# Altium footprint library crystal.PcbLib: 12 footprints
Each footprint in its own frame and in the unit in brackets; x right, y up, seen from the top. Pads: shape width x height; smd on the part's side, far side on the other; paste and mask are expansions set on the pad; w line width, h text height; cw(c..) or ccw(c..) is an arc to the next point about the centre after c.
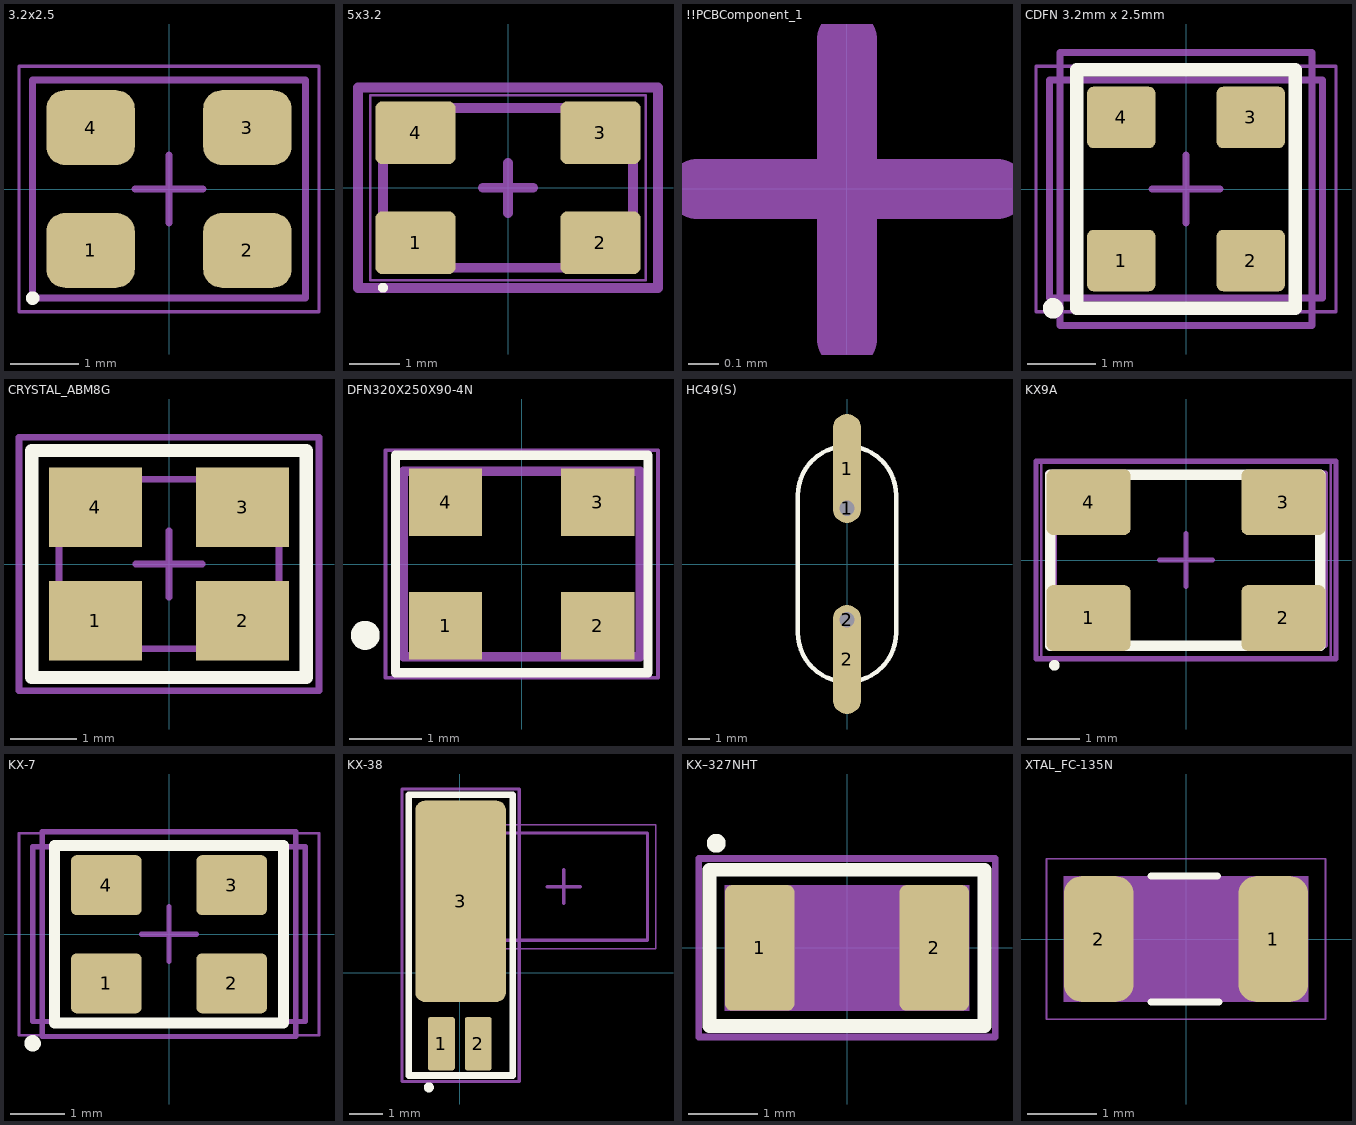
[diagram p0: the footprints below, top view; thin cyan lines are the x and y axes]

## 3.2x2.5 [mm] "KX7T"
height 1
pads (4):
  rrect50% 1.3x1.1 smd: 1(-1.15,-0.9) 2(1.15,-0.9) 3(1.15,0.9) 4(-1.15,0.9)
Top Overlay:
  circle w0.1: c-2,-1.6 r0.05
Mechanical 13:
  lines w0.1: -2,-1.6 -2,1.6 2,1.6 2,-1.6 -2,-1.6
Mechanical 15:
  lines w0.05: -2.2,-1.8 -2.2,1.8 2.2,1.8 2.2,-1.8 -2.2,-1.8
  lines w0.1: -0.5,0 0.5,0 ; 0,-0.5 0,0.5
3D body "User Library-CTS.step": height 0.77, standoff 0, extent -1.6,-1.25 1.6,1.25

## 5x3.2 [mm] "KX9A, IPC Medium Density"
height 1
pads (4):
  rrect20% 1.6x1.25 smd: 1(-1.85,-1.1) 2(1.85,-1.1) 3(1.85,1.1) 4(-1.85,1.1)
Top Overlay:
  circle w0.1: c-2.5,-2 r0.05
M3_comm_top:
  text ".comment" at -0.9,-0.3 h1
M5_asm_top:
  circle w0.2: c-1.9,-1 r0.25
  lines w0.2: -2.5,-1.6 -2.5,1.6 2.5,1.6 2.5,-1.6 -2.5,-1.6
  text ".Designator" at -1.1,2 h1
M7_courtyard_top:
  lines w0.2: -0.5,0 0.5,0 ; 0,-0.5 0,0.5 ; -3,-2 -3,2 3,2 3,-2 -3,-2
Mechanical 13:
  lines w0.1: -2.5,-1.6 -2.5,1.6 2.5,1.6 2.5,-1.6 -2.5,-1.6
Mechanical 15:
  lines w0.05: -2.75,-1.85 -2.75,1.85 2.75,1.85 2.75,-1.85 -2.75,-1.85
  lines w0.1: -0.5,0 0.5,0 ; 0,-0.5 0,0.5
3D body "GeyerElectronics_KX9A.step": height 1.01, standoff 0, extent -2.5,-1.6 2.5,1.6

## !!PCBComponent_1 [mm]
M3_comm_top:
  text ".comment" at -0.9,-0.3 h1
M5_asm_top:
  text ".Designator" at -1,1.3 h1
M7_courtyard_top:
  lines w0.2: -0.5,0 0.5,0 ; 0,-0.5 0,0.5

## CDFN 3.2mm x 2.5mm [mm] "MEMS OSC XO 24.0000MHZ CMOS SMD"
height 1
pads (4):
  rrect20% 1x0.9 smd: 1(-0.95,-1.05) 2(0.95,-1.05) 3(0.95,1.05) 4(-0.95,1.05)
Top Overlay:
  circle w0.2: c-1.95,-1.75 r0.05
  lines w0.2: -1.6,-1.75 1.6,-1.75 1.6,1.75 -1.6,1.75 -1.6,-1.75
M3_comm_top:
  text ".comment" at -0.9,-0.3 h1
M5_asm_top:
  circle w0.1: c-1.95,-1.75 r0.035
  lines w0.1: -1.6,-1.725 -1.575,-1.75 ; -1.6,-1.75 1.6,-1.75 1.6,1.75 -1.6,1.75 -1.6,-1.75
  text ".Designator" at -1.35,1.925 h1
M7_courtyard_top:
  lines w0.1: -0.5,0 0.5,0 ; 0,-0.5 0,0.5 ; -1.85,-2 1.85,-2 1.85,2 -1.85,2 -1.85,-2
Mechanical 13:
  lines w0.1: -2,-1.6 -2,1.6 2,1.6 2,-1.6 -2,-1.6
Mechanical 15:
  lines w0.05: -2.2,-1.8 -2.2,1.8 2.2,1.8 2.2,-1.8 -2.2,-1.8
  lines w0.1: -0.5,0 0.5,0 ; 0,-0.5 0,0.5
3D body "User Library-CDFN3225.STEP": height 0.9, standoff 0, extent -1.25,-1.6 1.25,1.6

## CRYSTAL_ABM8G [mil]
pads (4):
  rect 55x47 smd: 1(-43.5,-33.5) 2(43.5,-33.5) 3(43.5,33.5) 4(-43.5,33.5)
Top Overlay:
  lines w7.87: -81,-67 81,-67 81,67 -81,67 -81,-67
  text "." at -82.68,-90.55 h39.37
M11_dimension:
  lines w4: -65,-50 65,-50 65,50 -65,50 -65,-50
Mechanical 15:
  lines w3.94: -19.68,0 19.68,0 ; 0,-19.68 0,19.68
  lines w4: -88.58,-74.8 88.58,-74.8 88.58,74.8 -88.58,74.8 -88.58,-74.8
3D body "User Library-ABM8G.step": height 39.76, standoff 0, extent -62.99,-49.21 63,49.22

## DFN320X250X90-4N [mm]
pads (4):
  rect 1.01x0.93 smd: 1(-1.05,-0.85) 2(1.05,-0.85) 3(1.05,0.85) 4(-1.05,0.85)
Top Overlay:
  circle w0.2: c-2.159,-0.984 r0.1
  lines w0.127: -1.74,-1.5 1.74,-1.5 1.74,1.5 -1.74,1.5 -1.74,-1.5
M1_3D_TOP:
  lines w0.05: -1.88,-1.57 1.88,-1.57 1.88,1.57 -1.88,1.57 -1.88,-1.57
  lines w0.127: -1.63,-1.28 1.63,-1.28 1.63,1.28 -1.63,1.28 -1.63,-1.28

## HC49(S) [mm] "Crystal, Thru-Hole; 2 Leads; Body 3.1 x 8.2 mm (Dia.xH)"
height 8.2
pads (4):
  round 1.3 hole 0.7: 1(0,2.55) 2(0,-2.55)
  oval 1.3x5 smd: 1(0,4.375) 2(0,-4.375)
Top Overlay:
  lines w0.2: -2.25,-3.15 ccw(c0,-3.15) 2.25,-3.15 2.25,3.15 ccw(c0,3.15) -2.25,3.15 -2.25,-3.15
3D body "HC-49.step": height 3.6, standoff -2.9, extent -2.25,-5.4 2.25,5.4

## KX9A [mm] "KX9A, IPC Medium Density"
height 1
pads (4):
  rrect20% 1.6x1.25 smd: 1(-1.85,-1.1) 2(1.85,-1.1) 3(1.85,1.1) 4(-1.85,1.1)
Top Overlay:
  circle w0.1: c-2.5,-2 r0.05
  lines w0.2: -2.575,-1.625 2.55,-1.625 2.55,1.625 -2.575,1.625 -2.575,-1.625
M3_comm_top:
  text ".comment" at -0.9,-0.3 h1
M5_asm_top:
  lines w0.1: -2.625,-1.625 -2.625,1.65 2.65,1.65 2.65,-1.625 -2.625,-1.625
  text ".Designator" at -1.1,2 h1
M7_courtyard_top:
  lines w0.1: -0.5,0 0.5,0 ; 0,-0.5 0,0.5 ; -2.85,-1.875 -2.85,1.875 2.85,1.875 2.85,-1.875 -2.85,-1.875
Mechanical 13:
  lines w0.1: -2.5,-1.6 2.5,-1.6 2.5,1.6 -2.5,1.6 -2.5,-1.6
Mechanical 15:
  lines w0.05: -2.75,-1.85 2.75,-1.85 2.75,1.85 -2.75,1.85 -2.75,-1.85
  lines w0.1: -0.5,0 0.5,0 ; 0,-0.5 0,0.5
3D body "GeyerElectronics_KX9A.step": height 1.01, standoff 0, extent -2.5,-1.6 2.5,1.6

## KX-7 [mm] "KX-7T 8.0 MHz, KX-7T 16.0 MHz"
height 1
pads (4):
  rrect20% 1.3x1.1 smd: 1(-1.15,-0.9) 2(1.15,-0.9) 3(1.15,0.9) 4(-1.15,0.9)
Top Overlay:
  circle w0.2: c-2.5,-2 r0.05
  lines w0.2: -2.1,-1.625 2.1,-1.625 2.1,1.625 -2.1,1.625 -2.1,-1.625
M3_comm_top:
  text ".comment" at 0,0 h1
M5_asm_top:
  circle w0.15: c-2.5,-2 r0.025
  lines w0.1: -2.1,-1.625 -2.1,1.625 2.1,1.625 2.1,-1.625 -2.1,-1.625
  text ".Designator" at -1.1,2 h1
M7_courtyard_top:
  lines w0.1: -0.5,0 0.5,0 ; 0,-0.5 0,0.5 ; -2.325,-1.875 -2.325,1.875 2.325,1.875 2.325,-1.875 -2.325,-1.875
Mechanical 13:
  lines w0.1: -2.5,-1.6 2.5,-1.6 2.5,1.6 -2.5,1.6 -2.5,-1.6
Mechanical 15:
  lines w0.05: -2.75,-1.85 2.75,-1.85 2.75,1.85 -2.75,1.85 -2.75,-1.85
  lines w0.1: -0.5,0 0.5,0 ; 0,-0.5 0,0.5
3D body "User Library-Geyer_KX7T.STEP": height 0.81, standoff 0, extent -1.607,-1.25 1.607,1.25

## KX-38 [mm] "KX-38, IPC Medium Density"
height 1
pads (3):
  rrect20% 0.8x1.6 smd: 1(-0.55,-2.125) 2(0.55,-2.125)
  rrect20% 2.7x6 smd: 3(0.025,2.125)
Top Overlay:
  circle w0.2: c-0.925,-3.425 r0.05
  lines w0.2: -1.525,-3.075 -1.525,5.3 1.575,5.3 1.575,-1.125 1.575,-3.075 -1.525,-3.075
M3_comm_top:
  text ".comment" at 0,-0.025 h1
M5_asm_top:
  lines w0.1: -1.525,-3.075 1.575,-3.075 1.575,-1.125 1.575,5.3 -1.525,5.3 -1.525,-3.075
  lines w0.2: -0.915,-3.427 cw(c-0.925,-3.425) -0.915,-3.425
  text ".Designator" at -0.825,5.55 h1
M7_courtyard_top:
  lines w0.1: -0.5,0 0.5,0 ; 0,-0.5 0,0.5 ; -1.725,-3.25 -1.725,5.475 1.775,5.475 1.775,-1 1.775,-3.25 -1.725,-3.25
Mechanical 13:
  lines w0.1: 0.6,0.963 0.6,4.163 5.6,4.163 5.6,0.963 0.6,0.963
Mechanical 15:
  lines w0.05: 0.35,0.713 0.35,4.413 5.85,4.413 5.85,0.713 0.35,0.713
  lines w0.1: 2.6,2.563 3.6,2.563 ; 3.1,2.063 3.1,3.063
3D body "User Library-MS2V-T1S.STEP": height 1.55, standoff 0.05, extent -0.725,-2.8 0.775,4.4

## KX–327NHT [mm] "KX–327NHT"
pads (2):
  rrect20% 1x1.8 smd: 1(-1.25,0) 2(1.25,0)
Top Overlay:
  lines w0.2: -1.84,1.494 cw(c-1.875,1.5) -1.84,1.5 ; -1.97,-1.12 -1.97,1.12 1.97,1.12 1.97,-1.12 -1.97,-1.12
M3_comm_top:
  text ".comment" at -0.9,-0.3 h1
M5_asm_top:
  lines w0.1: -1.975,1.12 -1.97,-1.12 1.97,-1.12 1.97,1.12 -1.975,1.12
  lines w0.2: -1.851,1.494 cw(c-1.875,1.5) -1.85,1.5
  text ".Designator" at -1.175,1.45 h1
M7_courtyard_top:
  lines w0.1: -0.5,0 0.5,0 ; 0,-0.5 0,0.5 ; -2.125,-1.28 2.125,-1.28 2.125,1.28 -2.125,1.28 -2.125,-1.28
M11_dimension:
  text "1" at 1.33,0 h0.2
  text "2" at -1.17,0 h0.2
Mechanical 16:
  circle w0.025: c1.25,0 r0.453
  region: -1.6,0.65 -1.591,0.65 -1.583,0.652 -1.574,0.653 -1.566,0.656 -1.558,0.659 -1.55,0.663 -1.543,0.668 -1.536,0.673 -1.529,0.679 -1.523,0.686 -1.518,0.693 -1.513,0.7 -1.509,0.708 -1.506,0.716 -1.503,0.724 -1.502,0.733 -1.5,0.741 -1.5,0.75 1.5,0.75 1.5,0.741 1.502,0.733 1.503,0.724 1.506,0.716 1.509,0.708 1.513,0.7 1.518,0.693 1.523,0.686 1.529,0.679 1.536,0.673 1.543,0.668 1.55,0.663 1.558,0.659 1.566,0.656 1.574,0.653 1.583,0.652 1.591,0.65 1.6,0.65 1.6,-0.65 1.591,-0.65 1.583,-0.652 1.574,-0.653 1.566,-0.656 1.558,-0.659 1.55,-0.663 1.543,-0.668 1.536,-0.673 1.529,-0.679 1.523,-0.686 1.518,-0.693 1.513,-0.7 1.509,-0.708 1.506,-0.716 1.503,-0.724 1.502,-0.733 1.5,-0.741 1.5,-0.75 -1.5,-0.75 -1.5,-0.741 -1.502,-0.733 -1.503,-0.724 -1.506,-0.716 -1.509,-0.708 -1.513,-0.7 -1.518,-0.693 -1.523,-0.686 -1.529,-0.679 -1.536,-0.673 -1.543,-0.668 -1.55,-0.663 -1.558,-0.659 -1.566,-0.656 -1.574,-0.653 -1.583,-0.652 -1.591,-0.65 -1.6,-0.65
  pour cut-out: 1.75,0.9 1.75,-0.9 -1.75,-0.9 -1.75,0.9
  lines w0.025: -2,-1.15 2,-1.15 2,1.15 -2,1.15 -2,-1.15 ; -1.6,-0.65 cw(c-1.6,-0.75) -1.5,-0.75 1.5,-0.75 cw(c1.6,-0.75) 1.6,-0.65 1.6,0.65 cw(c1.6,0.75) 1.5,0.75 -1.5,0.75 cw(c-1.6,0.75) -1.6,0.65 -1.6,-0.65
Mechanical 17:
  text "COPYRIGHTS 2011 @ DYNAMIC PRECISION" at 2.85,-1.3 h0.2
Mechanical 18:
  text "JOANNA MINKIEWICZ" at 1.45,0.3 h0.2
Mechanical 19:
  text "ROBERT MITAL" at 1.45,-0.1 h0.2
Mechanical 20:
  text "2011-03-09" at 1.45,0.65 h0.2
3D body "User Library-KX-327NHT-1.STEP": height 0.71, standoff 0, extent -1.6,-0.75 1.6,0.75

## XTAL_FC-135N [mm] "XTAL_FC-135N"
pads (2):
  rrect50% 1x1.8 smd: 1(1.25,0) 2(-1.25,0)
Top Overlay:
  lines w0.1: -0.5,-0.9 0.475,-0.9 ; -0.5,0.9 0.45,0.9
M11_dimension:
  text "2" at -1.17,0 h0.2
  text "1" at 1.33,0 h0.2
Mechanical 16:
  circle w0.025: c1.25,0 r0.453
  pour cut-out: 1.75,0.9 1.75,-0.9 -1.75,-0.9 -1.75,0.9
  region: -1.6,0.65 -1.591,0.65 -1.583,0.652 -1.574,0.653 -1.566,0.656 -1.558,0.659 -1.55,0.663 -1.543,0.668 -1.536,0.673 -1.529,0.679 -1.523,0.686 -1.518,0.693 -1.513,0.7 -1.509,0.708 -1.506,0.716 -1.503,0.724 -1.502,0.733 -1.5,0.741 -1.5,0.75 1.5,0.75 1.5,0.741 1.502,0.733 1.503,0.724 1.506,0.716 1.509,0.708 1.513,0.7 1.518,0.693 1.523,0.686 1.529,0.679 1.536,0.673 1.543,0.668 1.55,0.663 1.558,0.659 1.566,0.656 1.574,0.653 1.583,0.652 1.591,0.65 1.6,0.65 1.6,-0.65 1.591,-0.65 1.583,-0.652 1.574,-0.653 1.566,-0.656 1.558,-0.659 1.55,-0.663 1.543,-0.668 1.536,-0.673 1.529,-0.679 1.523,-0.686 1.518,-0.693 1.513,-0.7 1.509,-0.708 1.506,-0.716 1.503,-0.724 1.502,-0.733 1.5,-0.741 1.5,-0.75 -1.5,-0.75 -1.5,-0.741 -1.502,-0.733 -1.503,-0.724 -1.506,-0.716 -1.509,-0.708 -1.513,-0.7 -1.518,-0.693 -1.523,-0.686 -1.529,-0.679 -1.536,-0.673 -1.543,-0.668 -1.55,-0.663 -1.558,-0.659 -1.566,-0.656 -1.574,-0.653 -1.583,-0.652 -1.591,-0.65 -1.6,-0.65
  lines w0.025: -2,-1.15 -2,1.15 2,1.15 2,-1.15 -2,-1.15 ; -1.6,-0.65 cw(c-1.6,-0.75) -1.5,-0.75 1.5,-0.75 cw(c1.6,-0.75) 1.6,-0.65 1.6,0.65 cw(c1.6,0.75) 1.5,0.75 -1.5,0.75 cw(c-1.6,0.75) -1.6,0.65 -1.6,-0.65
Mechanical 17:
  text "COPYRIGHTS 2011 @ DYNAMIC PRECISION" at 2.85,-1.3 h0.2
Mechanical 18:
  text "JOANNA MINKIEWICZ" at 1.45,0.3 h0.2
Mechanical 19:
  text "ROBERT MITAL" at 1.45,-0.1 h0.2
Mechanical 20:
  text "2011-03-09" at 1.45,0.65 h0.2
3D body "crystal_NDK_NX3215SA.step": height 0.8, standoff 0, extent -1.6,-0.75 1.6,0.75